# EAGLE library part RASBERRYPI_IDC (library microbuilder)
Rasberry PI IDC Header
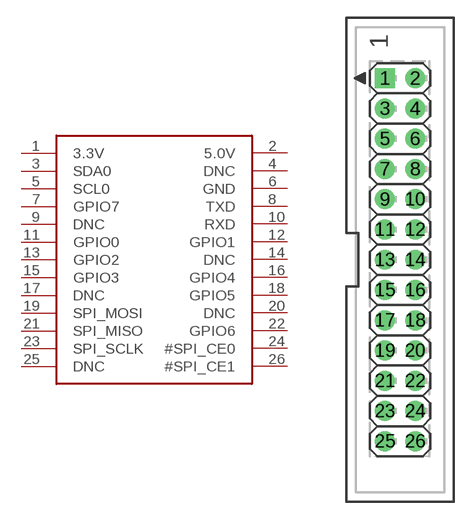
[diagram p201: symbol with the pads of RASBERRYPI_IDC; footprint RASBERRYPI_IDC]

Designator prefix JP

## RASBERRYPI_IDC  [RASBERRYPI_IDC]
1  3.3V  sup
2  5.0V  sup
3  SDA0
4  DNC  nc
5  SCL0  out
6  GND  sup
7  GPIO7
8  TXD  out
9  DNC  nc
10  RXD  in
11  GPIO0
12  GPIO1
13  GPIO2
14  DNC  nc
15  GPIO3
16  GPIO4
17  DNC  nc
18  GPIO5
19  SPI_MOSI  out
20  DNC  nc
21  SPI_MISO  in
22  GPIO6
23  SPI_SCLK  out
24  #SPI_CE0  out
25  DNC  nc
26  #SPI_CE1  out

## Footprint RASBERRYPI_IDC (pad centres in mm)
drill 1 pad 1.676 square: 1 -1.27,15.24
drill 1 pad 1.676: 2 1.27,15.24; 3 -1.27,12.7; 4 1.27,12.7; 5 -1.27,10.16; 6 1.27,10.16; 7 -1.27,7.62; 8 1.27,7.62; 9 -1.27,5.08; 10 1.27,5.08; 11 -1.27,2.54; 12 1.27,2.54; 13 -1.27,0; 14 1.27,0; 15 -1.27,-2.54; 16 1.27,-2.54; 17 -1.27,-5.08; 18 1.27,-5.08; 19 -1.27,-7.62; 20 1.27,-7.62; 21 -1.27,-10.16; 22 1.27,-10.16; 23 -1.27,-12.7; 24 1.27,-12.7; 25 -1.27,-15.24; 26 1.27,-15.24